# Altium footprint library Vishay Draloric Ceramic Disc Capacitor.PcbLib: 220 footprints (part 6 of 14)
Each footprint in its own frame and in the unit in brackets; x right, y up, seen from the top. Pads: shape width x height; smd on the part's side, far side on the other; paste and mask are expansions set on the pad; w line width, h text height; cw(c..) or ccw(c..) is an arc to the next point about the centre after c.
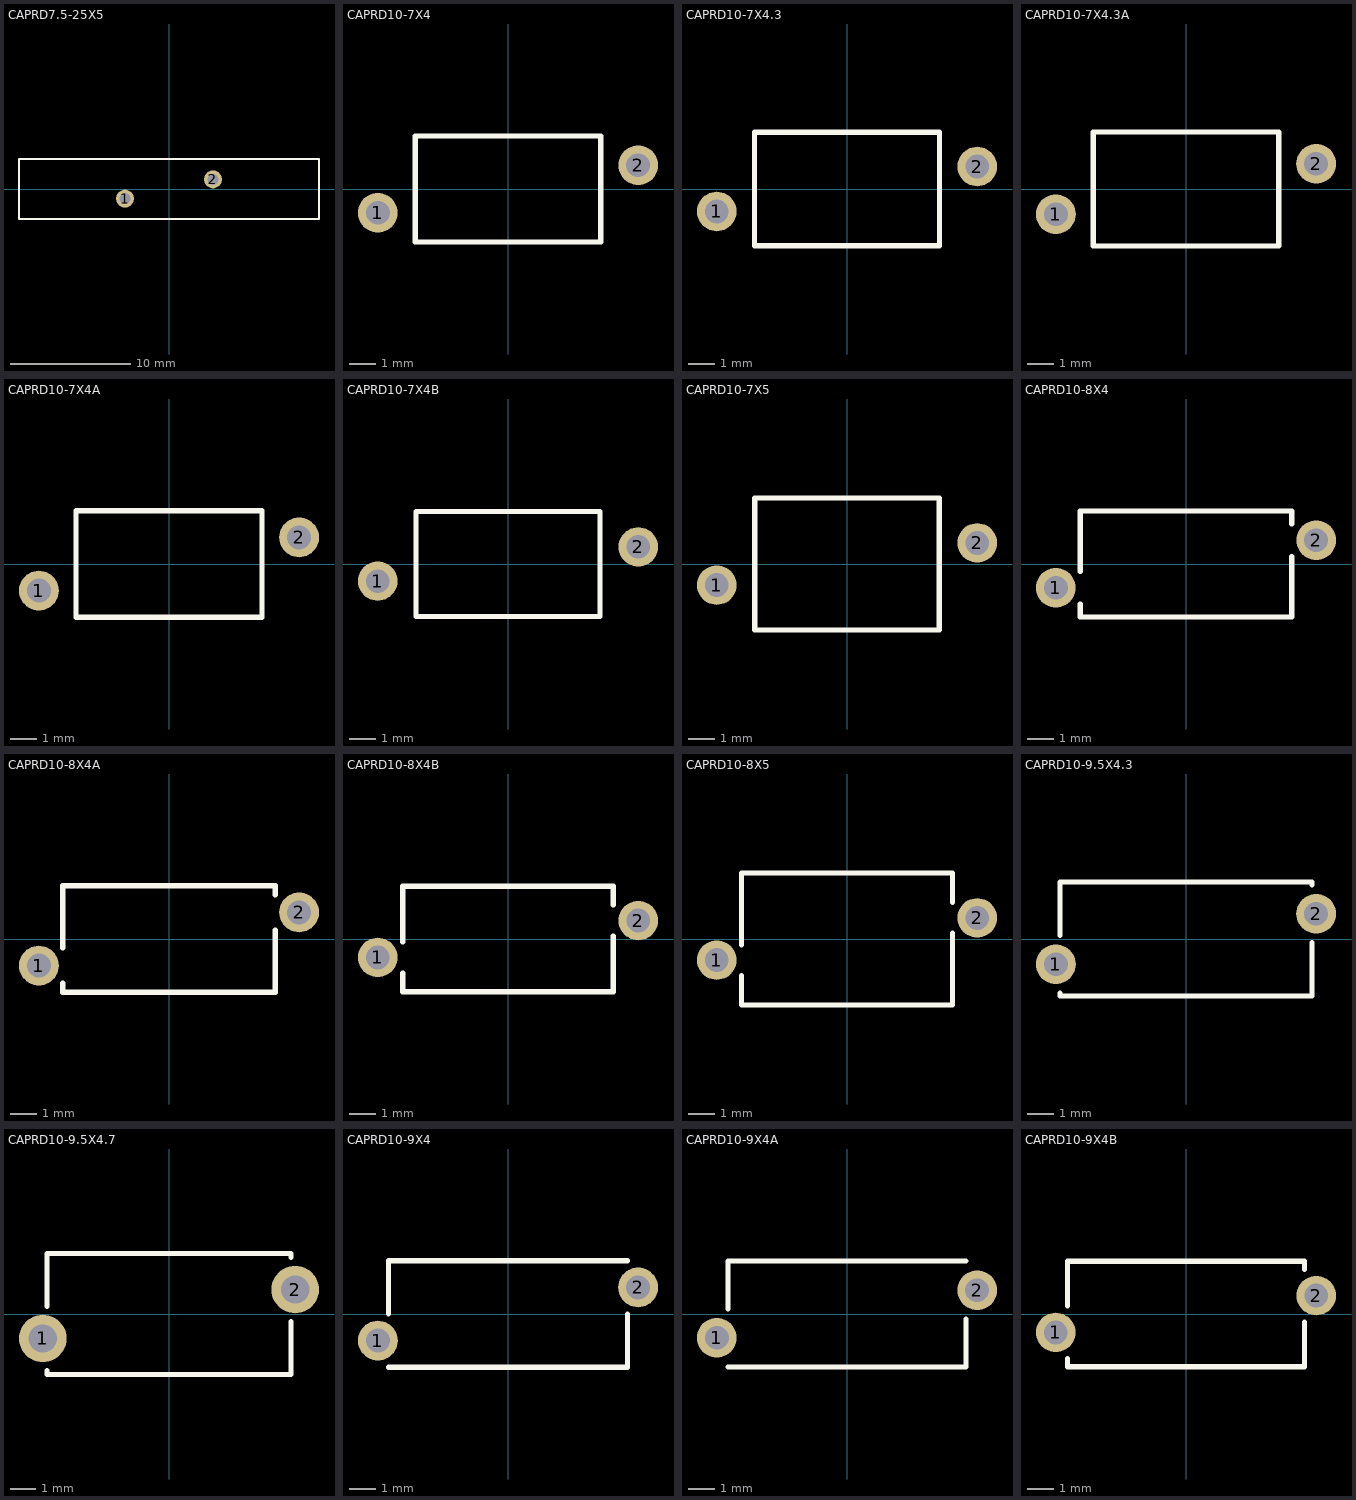
[diagram p5: the footprints below, top view; thin cyan lines are the x and y axes]

## CAPRD7.5-25X5 [mm] "Capacitor, Ceramic, Thru-Hole, Disc; Body 25 x 5 mm (LxW max) Pin Spacing 7.5 mm (typ)"
height 28
pads (2):
  round 1.5 hole 0.9: 1(-3.664,-0.8) 2(3.664,0.8)
Top Overlay:
  lines w0.2: -12.5,-2.5 -12.5,2.5 12.5,2.5 12.5,-2.5 -12.5,-2.5

## CAPRD10-7X4 [mm] "Capacitor, Ceramic, Thru-Hole, Disc; Body 7 x 4 mm (LxW max) Pin Spacing 10 mm (typ)"
height 10
pads (2):
  round 1.5 hole 0.9: 1(-4.918,-0.9) 2(4.918,0.9)
Top Overlay:
  lines w0.2: -3.5,-2 -3.5,2 3.5,2 3.5,-2 -3.5,-2

## CAPRD10-7X4.3 [mm] "Capacitor, Ceramic, Thru-Hole, Disc; Body 7 x 4.3 mm (LxW max) Pin Spacing 10 mm (typ)"
height 10
pads (2):
  round 1.5 hole 0.9: 1(-4.927,-0.85) 2(4.927,0.85)
Top Overlay:
  lines w0.2: -3.5,-2.15 -3.5,2.15 3.5,2.15 3.5,-2.15 -3.5,-2.15

## CAPRD10-7X4.3A [mm] "Capacitor, Ceramic, Thru-Hole, Disc; Body 7 x 4.3 mm (LxW max) Pin Spacing 10 mm (typ)"
height 10
pads (2):
  round 1.5 hole 0.9: 1(-4.909,-0.95) 2(4.909,0.95)
Top Overlay:
  lines w0.2: -3.5,-2.15 -3.5,2.15 3.5,2.15 3.5,-2.15 -3.5,-2.15

## CAPRD10-7X4A [mm] "Capacitor, Ceramic, Thru-Hole, Disc; Body 7 x 4 mm (LxW max) Pin Spacing 10 mm (typ)"
height 10
pads (2):
  round 1.5 hole 0.9: 1(-4.899,-1) 2(4.899,1)
Top Overlay:
  lines w0.2: -3.5,-2 -3.5,2 3.5,2 3.5,-2 -3.5,-2

## CAPRD10-7X4B [mm] "Capacitor, Ceramic, Thru-Hole, Disc; Body 7 x 4 mm (LxW max) Pin Spacing 10 mm (typ)"
height 10
pads (2):
  round 1.5 hole 0.9: 1(-4.958,-0.65) 2(4.958,0.65)
Top Overlay:
  lines w0.2: -3.5,-2 -3.5,2 3.5,2 3.5,-2 -3.5,-2

## CAPRD10-7X5 [mm] "Capacitor, Ceramic, Thru-Hole, Disc; Body 7 x 5 mm (LxW max) Pin Spacing 10 mm (typ)"
height 10
pads (2):
  round 1.5 hole 0.9: 1(-4.936,-0.8) 2(4.936,0.8)
Top Overlay:
  lines w0.2: -3.5,-2.5 3.5,-2.5 3.5,2.5 -3.5,2.5 -3.5,-2.5

## CAPRD10-8X4 [mm] "Capacitor, Ceramic, Thru-Hole, Disc; Body 8 x 4 mm (LxW max) Pin Spacing 10 mm (typ)"
height 11
pads (2):
  round 1.5 hole 0.9: 1(-4.918,-0.9) 2(4.918,0.9)
Top Overlay:
  lines w0.2: -4,-1.514 -4,-2 4,-2 4,0.286 ; -4,-0.286 -4,2 4,2 4,1.514

## CAPRD10-8X4A [mm] "Capacitor, Ceramic, Thru-Hole, Disc; Body 8 x 4 mm (LxW max) Pin Spacing 10 mm (typ)"
height 11
pads (2):
  round 1.5 hole 0.9: 1(-4.899,-1) 2(4.899,1)
Top Overlay:
  lines w0.2: -4,-1.66 -4,-2 4,-2 4,0.34 ; -4,-0.34 -4,2 4,2 4,1.66

## CAPRD10-8X4B [mm] "Capacitor, Ceramic, Thru-Hole, Disc; Body 8 x 4 mm (LxW max) Pin Spacing 10 mm (typ)"
height 11
pads (2):
  round 1.5 hole 0.9: 1(-4.951,-0.7) 2(4.951,0.7)
Top Overlay:
  lines w0.2: -4,-1.3 -4,-2 4,-2 4,0.1 ; -4,-0.1 -4,2 4,2 4,1.3

## CAPRD10-8X5 [mm] "Capacitor, Ceramic, Thru-Hole, Disc; Body 8 x 5 mm (LxW max) Pin Spacing 10 mm (typ)"
height 11
pads (2):
  round 1.5 hole 0.9: 1(-4.936,-0.8) 2(4.936,0.8)
Top Overlay:
  lines w0.2: -4,-1.38 -4,-2.5 4,-2.5 4,0.22 ; -4,-0.22 -4,2.5 4,2.5 4,1.38

## CAPRD10-9.5X4.3 [mm] "Capacitor, Ceramic, Thru-Hole, Disc; Body 9.5 x 4.3 mm (LxW max) Pin Spacing 10 mm (typ)"
height 12.5
pads (2):
  round 1.5 hole 0.9: 1(-4.909,-0.95) 2(4.909,0.95)
Top Overlay:
  lines w0.2: -4.75,-2.04 -4.75,-2.15 4.75,-2.15 4.75,-0.14 ; -4.75,0.14 -4.75,2.15 4.75,2.15 4.75,2.04

## CAPRD10-9.5X4.7 [mm] "Capacitor, Ceramic, Thru-Hole, Disc; Body 9.5 x 4.7 mm (LxW max) Pin Spacing 10 mm (typ)"
height 12.5
pads (2):
  round 1.85 hole 1.1: 1(-4.909,-0.95) 2(4.909,0.95)
Top Overlay:
  lines w0.2: -4.75,-2.2 -4.75,-2.35 4.75,-2.35 4.75,-0.3 ; -4.75,0.3 -4.75,2.35 4.75,2.35 4.75,2.2

## CAPRD10-9X4 [mm] "Capacitor, Ceramic, Thru-Hole, Disc; Body 9 x 4 mm (LxW max) Pin Spacing 10 mm (typ)"
height 12
pads (2):
  round 1.5 hole 0.9: 1(-4.899,-1) 2(4.899,1)
Top Overlay:
  lines w0.2: -4.5,-2 4.5,-2 4.5,0 ; -4.5,0 -4.5,2 4.5,2

## CAPRD10-9X4A [mm] "Capacitor, Ceramic, Thru-Hole, Disc; Body 9 x 4 mm (LxW max) Pin Spacing 10 mm (typ)"
height 12
pads (2):
  round 1.5 hole 0.9: 1(-4.918,-0.9) 2(4.918,0.9)
Top Overlay:
  lines w0.2: -4.5,-2 4.5,-2 4.5,-0.2 ; -4.5,0.2 -4.5,2 4.5,2

## CAPRD10-9X4B [mm] "Capacitor, Ceramic, Thru-Hole, Disc; Body 9 x 4 mm (LxW max) Pin Spacing 10 mm (typ)"
height 12
pads (2):
  round 1.5 hole 0.9: 1(-4.951,-0.7) 2(4.951,0.7)
Top Overlay:
  lines w0.2: -4.5,-1.7 -4.5,-2 4.5,-2 4.5,-0.3 ; -4.5,0.3 -4.5,2 4.5,2 4.5,1.7